# Altium schematic symbol library LD_EDFA.SchLib: 70 symbols
Pins are listed as number, name and electrical type; pins without a type are passive.

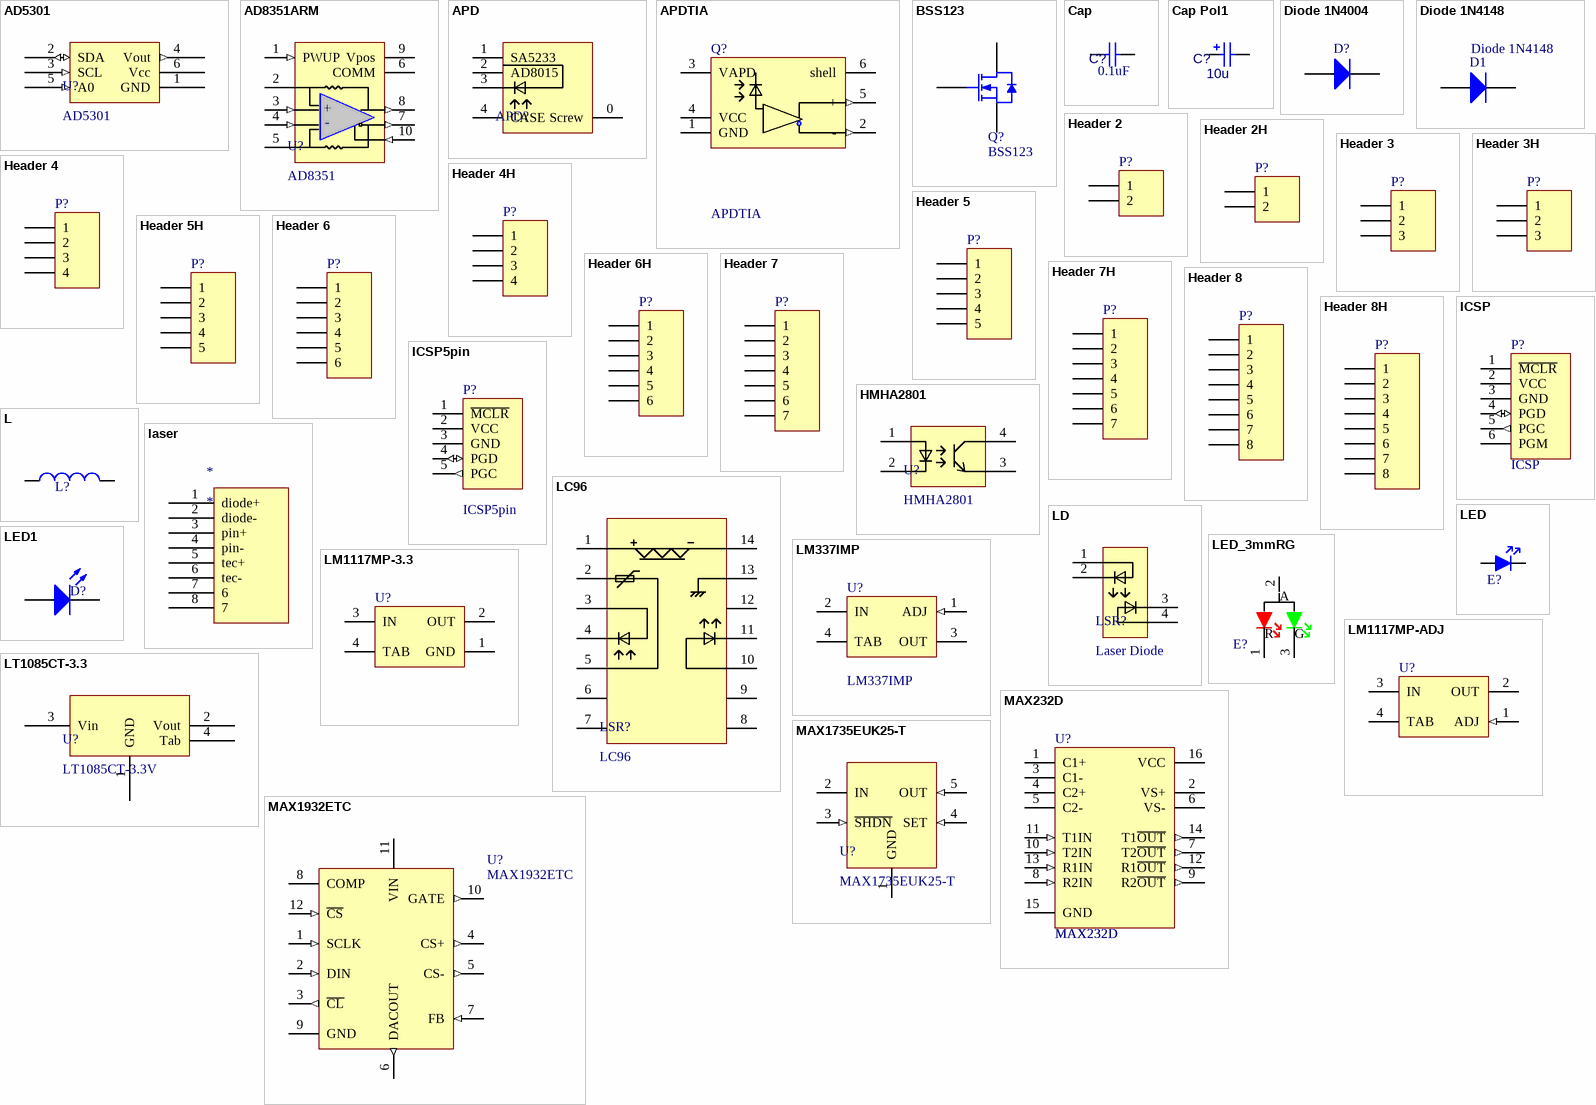
[diagram p0: symbols AD5301 to MAX1932ETC]

## AD5301
designator U?
AnalogDevices, I2C bus, 8bit  voltage output DAC
pins: 1 GND (power), 2 SDA (io), 3 SCL (in), 4 Vout (out), 5 A0 (in), 6 Vcc (power)

## AD8351ARM
designator U?, comment AD8351
Low Distortion  Differential RF/IF Amplifier
footprint MSOP-UN10_L (TSSOP, 10-Leads, Body 3x3mm, Pitch 0.5mm, IPC High Density)
footprint MSOP-UN10_M (TSSOP, 10-Leads, Body 3x3mm, Pitch 0.5mm, IPC Low Density)
footprint MSOP-UN10_N (TSSOP, 10-Leads, Body 3x3mm, Pitch 0.5mm, IPC Medium Density)
pins: 1 PWUP (in), 2 RGP1, 3 IN+ (in), 4 IN- (in), 5 RGP2, 6 COMM (power), 7 OPlow (out), 8 OPhigh (out), 9 Vpos (power), 10 Vocomm (in)
text: +; -

## APD
designator APD?  (value not drawn)
positiive choiceable APD
footprint APD-4pin
pins: 0 Screw, 1 SA5233, 2 AD8015, 3 monitor cathode +, 4 CASE

## APDTIA
designator Q?
footprint APDTIAnew
pins: 1 GND (power), 2 - (out), 3 VAPD (power), 4 VCC (power), 5 + (out), 6 shell

## BSS123
designator Q?
N-Channel Logic Level Enhancement Mode Field Effect Transistor
footprint SOT23_M (SOT23, 3-Leads, Body 2.9x1.3mm, Pitch 0.95mm, Lead Span 2.3mm - Reverse Pinning, IPC Low Density)
footprint SOT23_L (SOT23, 3-Leads, Body 2.9x1.3mm, Pitch 0.95mm, Lead Span 2.3mm - Reverse Pinning, IPC High Density)
footprint SOT23_N (SOT23, 3-Leads, Body 2.9x1.3mm, Pitch 0.95mm, Lead Span 2.3mm - Reverse Pinning, IPC Medium Density)
pins: 1 D, 2 S, 3 G

## Cap
designator C?  value 0.1uF
Capacitor; Published: 8-Jun-2000; LatestRevisionDate: 17-Jul-2002; LatestRevisionNote: Re-released for DXP Platform.; Publisher: Altium Limited
footprint CAP-MLCC-0603
footprint CAP-MLCC-0805
pins: 1, 2
2 alternate drawings of the same symbol

## Cap Pol1
designator C?  value 10u
Polarized Capacitor (Radial); Published: 8-Jun-2000; LatestRevisionDate: 17-Jul-2002; LatestRevisionNote: Re-released for DXP Platform.; Publisher: Altium Limited
footprint CAP-TAN-3216/CAPA
footprint CAP-TAN-3528/CAPB
pins: 1, 2
2 alternate drawings of the same symbol

## Diode 1N4004
designator D?  (value not drawn)
1 Amp General Purpose Rectifier; Revision 1: 11-Jul-2000: SIM Model Added.; Revision 2: 17-Jul-2002: Re-released for DXP Platform.; Package Information: Latest Revision: Aug-1999; Code - JEDEC: DO-204-AL; Published: 8-Jun-2000; Datasheet: Latest Revision: 1998; Package Reference: DO-41; Publisher: Altium Limited
footprint DIODE-0.4
pins: 1 A, 2 K

## Diode 1N4148
designator D1
High Conductance Fast Diode; Published: 8-Jun-2000; LatestRevisionDate: 17-Jul-2002; LatestRevisionNote: Re-released for DXP Platform.; DatasheetVersion: 1997; PackageReference: DO-35; Publisher: Altium Limited; Code_JEDEC: DO-204-AH; ComponentLink1Description: Manufacturer Link; ComponentLink1URL: http://www.fairchildsemi.com/; ComponentLink2Description: Datasheet; ComponentLink2URL: http://www.fairchildsemi.com/ds/1N%2F1N4148.pdf
footprint DIO7.1-3.9x1.9 (Diode, Axial; Body 3.8 x 1.9 mm (LxDia. max), Lead Dia. 0.53 mm (max))
simulation model 1N4148 (DIODE)
signal-integrity model 1N4148
footprint DO-35 (Diode, Axial; Body 3.8 x 1.9 mm (LxDia. max), Lead Dia. 0.53 mm (max))
footprint Diode-1206
pins: 1 A, 2 K

## Header 2
designator P?
Header, 2-Pin; LatestRevisionDate: 17-Jul-2002; LatestRevisionNote: Re-released for DXP Platform.; Publisher: Altium Limited
footprint HDR1X2 (Connector; Header; 2 Position)
signal-integrity model Connector
pins: 1, 2

## Header 2H
designator P?
Header, 2-Pin, Right Angle; LatestRevisionDate: 17-Jul-2002; LatestRevisionNote: Re-released for DXP Platform.; Publisher: Altium Limited
footprint HDR1X2H (Connector; Header; 2 Position; Right Angle)
signal-integrity model Connector
pins: 1, 2

## Header 3
designator P?
Header, 3-Pin; LatestRevisionDate: 17-Jul-2002; LatestRevisionNote: Re-released for DXP Platform.; Publisher: Altium Limited
footprint HDR1X3 (Connector; Header; 3 Position)
signal-integrity model Connector
pins: 1, 2, 3

## Header 3H
designator P?
Header, 3-Pin, Right Angle; LatestRevisionDate: 17-Jul-2002; LatestRevisionNote: Re-released for DXP Platform.; Publisher: Altium Limited
footprint HDR1X3H (Connector; Header; 3 Position; Right Angle)
signal-integrity model Connector
pins: 1, 2, 3

## Header 4
designator P?
Header, 4-Pin; LatestRevisionDate: 17-Jul-2002; LatestRevisionNote: Re-released for DXP Platform.; Publisher: Altium Limited
footprint HDR1X4 (Connector; Header; 4 Position)
signal-integrity model Connector
pins: 1, 2, 3, 4

## Header 4H
designator P?
Header, 4-Pin, Right Angle; LatestRevisionDate: 17-Jul-2002; LatestRevisionNote: Re-released for DXP Platform.; Publisher: Altium Limited
footprint HDR1X4H (Connector; Header; 4 Position; Right Angle)
signal-integrity model Connector
pins: 1, 2, 3, 4

## Header 5
designator P?
Header, 5-Pin; LatestRevisionDate: 17-Jul-2002; LatestRevisionNote: Re-released for DXP Platform.; Publisher: Altium Limited
footprint HDR1X5 (Connector; Header; 5 Position)
signal-integrity model Connector
pins: 1, 2, 3, 4, 5

## Header 5H
designator P?
Header, 5-Pin, Right Angle; LatestRevisionDate: 17-Jul-2002; LatestRevisionNote: Re-released for DXP Platform.; Publisher: Altium Limited
footprint HDR1X5H (Connector; Header; 5 Position; Right Angle)
signal-integrity model Connector
pins: 1, 2, 3, 4, 5

## Header 6
designator P?
Header, 6-Pin; LatestRevisionDate: 17-Jul-2002; LatestRevisionNote: Re-released for DXP Platform.; Publisher: Altium Limited
footprint HDR1X6 (Connector; Header; 6 Position)
signal-integrity model Connector
pins: 1, 2, 3, 4, 5, 6

## Header 6H
designator P?
Header, 6-Pin, Right Angle; LatestRevisionDate: 17-Jul-2002; LatestRevisionNote: Re-released for DXP Platform.; Publisher: Altium Limited
footprint HDR1X6H (Connector; Header; 6 Position; Right Angle)
signal-integrity model Connector
pins: 1, 2, 3, 4, 5, 6

## Header 7
designator P?
Header, 7-Pin; LatestRevisionDate: 17-Jul-2002; LatestRevisionNote: Re-released for DXP Platform.; Publisher: Altium Limited
footprint HDR1X7 (Connector; Header; 7 Position)
signal-integrity model Connector
pins: 1, 2, 3, 4, 5, 6, 7

## Header 7H
designator P?
Header, 7-Pin, Right Angle; LatestRevisionDate: 17-Jul-2002; LatestRevisionNote: Re-released for DXP Platform.; Publisher: Altium Limited
footprint HDR1X7H (Connector; Header; 7 Position; Right Angle)
signal-integrity model Connector
pins: 1, 2, 3, 4, 5, 6, 7

## Header 8
designator P?
Header, 8-Pin; LatestRevisionDate: 17-Jul-2002; LatestRevisionNote: Re-released for DXP Platform.; Publisher: Altium Limited
footprint HDR1X8 (Connector; Header; 8 Position)
signal-integrity model Connector
pins: 1, 2, 3, 4, 5, 6, 7, 8

## Header 8H
designator P?
Header, 8-Pin, Right Angle; LatestRevisionDate: 17-Jul-2002; LatestRevisionNote: Re-released for DXP Platform.; Publisher: Altium Limited
footprint HDR1X8H (Connector; Header; 8 Position; Right Angle)
signal-integrity model Connector
pins: 1, 2, 3, 4, 5, 6, 7, 8

## HMHA2801
designator U?
FairChild Optocoupler
pins: 1 cooler+, 2 Thermistor, 3 Monitor anode -, 4 monitor cathode +

## ICSP
designator P?
footprint HDR1X6 (Connector; Header; 6 Position)
pins: 1 ~{MCLR} (power), 2 VCC (power), 3 GND (power), 4 PGD (io), 5 PGC (out), 6 PGM (power)

## ICSP5pin
designator P?
footprint HDR1X5 (Connector; Header; 5 Position)
pins: 1 ~{MCLR} (power), 2 VCC (power), 3 GND (power), 4 PGD (io), 5 PGC (out)

## L
designator L?
Inductor; Published: 8-Jun-2000; Revision: July-2002: Re-released for DXP Platform.; Publisher: Altium Limited
signal-integrity model Inductor
footprint RES-0805
footprint RES-1206
footprint RES-0805
footprint RES-1210
footprint RES-1812
footprint RES-2010
footprint RES-2220
pins: 1, 2

## laser
designator *
pins: 1 diode+, 2 diode-, 3 pin+, 4 pin-, 5 tec+, 6 tec-, 7 6, 8 7

## LC96
designator LSR?
High power 980nm pump laser module
footprint Laser14 (Laser)
pins: 1 cooler+, 2 Thermistor, 3 Monitor anode -, 4 monitor cathode +, 5 Thermistor, 6, 7, 8, 9, 10 Laser anode +, 11 laset cathode -, 12, 13 case ground, 14 cooler -

## LD
designator LSR?, comment Laser Diode
Laser Diode & PIN
footprint LD (Laser Diode with Pin)
pins: 1 Laser anode +, 2 laset cathode -, 3 monitor cathode +, 4 Monitor anode -

## LED
designator E?  (value not drawn)
footprint LED-0805 (Footprint not found)
footprint LED-1206 (Footprint not found)
footprint LED-3MM/V
footprint LED-5MM/V
footprint LED-3MM/H
footprint LED-5MM/H
pins: A 1, K 2

## LED1
designator D?  (value not drawn)
Typical RED GaAs LED; Published: 8-Jun-2000; Revision: July-2002: Re-released for DXP Platform.; Publisher: Altium Limited
footprint LED-1 (Typical RED GaAs LED; 2 Leads)
pins: 1 A, 2 K

## LED_3mmRG
designator E?, comment Dual LED  (value not drawn)
3mm Dual LED in Red and Green
footprint LED_DUAL-3MM/CommonAnode (Common Anode 3mm LED in Red and Green)
pins: 1 Red, 2 A, 3 Green
text: R; G

## LM337IMP
designator U?
3-Terminal Adjustable Negative Regulators 4-pin SOT-223; Manufacturer: National Semiconductor; PackageTopMarking: N02A; PowerWise: N; CompType: LDO IC; DatasheetVersion: Apr-2006; PackageVersion: revB, Apr-2003; PackageReference: MP04A; PackageDescription: Molded SOT-223, 6.50 x 3.56 x 1.6mm Body, 4 Lead, 2.3mm Pitch; PartNumber: LM337IMP; PinCount: 4; Code_JEDEC: TO-261-AA; Code_IPC: SOT223-4; ComponentLink1Description: LM1117 Datasheet; ComponentLink1URL: http://www.national.com/ds/LM/LM1117.pdf; ComponentLink2Description: LM1117 Web Page; ComponentLink2URL: http://www.national.com/pf/LM/LM1117.html; ComponentLink3Description: MP04A Package Page; ComponentLink3URL: http://www.national.com/packaging/folders/mp04a.html
footprint SOT223_L (SOT223, 4-Leads, Body 6.5x3.5mm, Pitch 2.3mm, Lead Span 7mm, IPC High Density)
footprint SOT223_M (SOT223, 4-Leads, Body 6.5x3.5mm, Pitch 2.3mm, Lead Span 7mm, IPC Low Density)
footprint SOT223_N (SOT223, 4-Leads, Body 6.5x3.5mm, Pitch 2.3mm, Lead Span 7mm, IPC Medium Density)
pins: 1 ADJ (in), 2 IN (power), 3 OUT (power), 4 TAB (power)

## LM1117MP-3.3
designator U?
800mA Low-Dropout Linear Regulator, 4-pin SOT-223; PartNumber: LM1117MP-3.3; Manufacturer: National Semiconductor; PackageTopMarking: XYTT*N05A; PowerWise: N; CompType: LDO IC; Published: 4-Dec-2008; DatasheetVersion: Apr-2006; PackageVersion: revB, Apr-2003; PackageReference: MP04A; Publisher: Altium Limited; PackageDescription: Molded SOT-223, 6.50 x 3.56 x 1.6mm Body, 4 Lead, 2.3mm Pitch; Supplier 1: Farnell; Supplier Part Number 1: 9778195; Supplier 2: Farnell; Supplier Part Number 2: 9778195RL; RoHS: N; PinCount: 4; Code_JEDEC: TO-261-AA; Code_IPC: SOT223-4; ComponentLink1Description: LM1117 Datasheet; ComponentLink1URL: http://www.national.com/ds/LM/LM1117.pdf; ComponentLink2Description: LM1117 Web Page; ComponentLink2URL: http://www.national.com/pf/LM/LM1117.html; ComponentLink3Description: MP04A Package Page; ComponentLink3URL: http://www.national.com/packaging/folders/mp04a.html
footprint SOT223_N (SOT223, 4-Leads, Body 6.5x3.5mm, Pitch 2.3mm, Lead Span 7mm, IPC Medium Density)
footprint SOT223_L (SOT223, 4-Leads, Body 6.5x3.5mm, Pitch 2.3mm, Lead Span 7mm, IPC High Density)
footprint SOT223_M (SOT223, 4-Leads, Body 6.5x3.5mm, Pitch 2.3mm, Lead Span 7mm, IPC Low Density)
pins: 1 GND (power), 2 OUT (power), 3 IN (power), 4 TAB (power)

## LM1117MP-ADJ
designator U?
800mA Low-Dropout Linear Regulator, 4-pin SOT-223; PartNumber: LM1117MP-ADJ; Manufacturer: National Semiconductor; PackageTopMarking: XYTT*N03A; PowerWise: N; CompType: LDO IC; Published: 4-Dec-2008; DatasheetVersion: Apr-2006; PackageVersion: revB, Apr-2003; PackageReference: MP04A; Publisher: Altium Limited; PackageDescription: Molded SOT-223, 6.50 x 3.56 x 1.6mm Body, 4 Lead, 2.3mm Pitch; Supplier 1: Farnell; Supplier Part Number 1: 9778187; RoHS: N; PinCount: 4; Code_JEDEC: TO-261-AA; Code_IPC: SOT223-4; ComponentLink1Description: LM1117 Datasheet; ComponentLink1URL: http://www.national.com/ds/LM/LM1117.pdf; ComponentLink2Description: LM1117 Web Page; ComponentLink2URL: http://www.national.com/pf/LM/LM1117.html; ComponentLink3Description: MP04A Package Page; ComponentLink3URL: http://www.national.com/packaging/folders/mp04a.html
footprint SOT223_L (SOT223, 4-Leads, Body 6.5x3.5mm, Pitch 2.3mm, Lead Span 7mm, IPC High Density)
footprint SOT223_M (SOT223, 4-Leads, Body 6.5x3.5mm, Pitch 2.3mm, Lead Span 7mm, IPC Low Density)
footprint SOT223_N (SOT223, 4-Leads, Body 6.5x3.5mm, Pitch 2.3mm, Lead Span 7mm, IPC Medium Density)
pins: 1 ADJ (in), 2 OUT (power), 3 IN (power), 4 TAB (power)

## LT1085CT-3.3
designator U?, comment LT1085CT-3.3V
Linear Tech 3.3V output LDO
footprint TS3B_N (D2-PAK, 4-Leads, Body 8.6x10.2mm, Pitch 2.54mm, Lead Span 14.2mm, IPC Medium Density)
pins: 1 GND (power), 2 Vout (power), 3 Vin (power), 4 Tab (power)

## MAX232D
designator U?
Dual EIA-232 Driver/Receiver; Note: Receivers have typical hysteresis of 0.5V; Published: 15-May-2002; DatasheetDocument: Jun-1989; PackageDocument: Jan-1998; PackageReference: D016; Publisher: Altium Limited; Comment_1: MAX232D
footprint D016_N (16-Pin Small Outline Integrated Circuit 1.27 mm Pitch, IPC Medium Density)
pins: 1 C1+, 2 VS+ (power), 3 C1-, 4 C2+, 5 C2-, 6 VS- (power), 7 T2~{OUT} (out), 8 R2IN (in), 9 R2~{OUT} (out), 10 T2IN (in), 11 T1IN (in), 12 R1~{OUT} (out), 13 R1IN (in), 14 T1~{OUT} (out), 15 GND (power), 16 VCC (power)

## MAX1735EUK25-T
designator U?
200mA, Negative-Output, Low-Dropout  Linear Regulator in SOT23
footprint SOT23-5
pins: 1 GND (power), 2 IN (power), 3 ~{SHDN} (in), 4 SET (in), 5 OUT (in)

## MAX1932ETC
designator U?
footprint TQFN-12
pins: 1 SCLK (in), 2 DIN (in), 3 ~{CL} (out), 4 CS+ (out), 5 CS- (out), 6 DACOUT (out), 7 FB (in), 8 COMP (power), 9 GND (power), 10 GATE (out), 11 VIN (power), 12 ~{CS} (in)

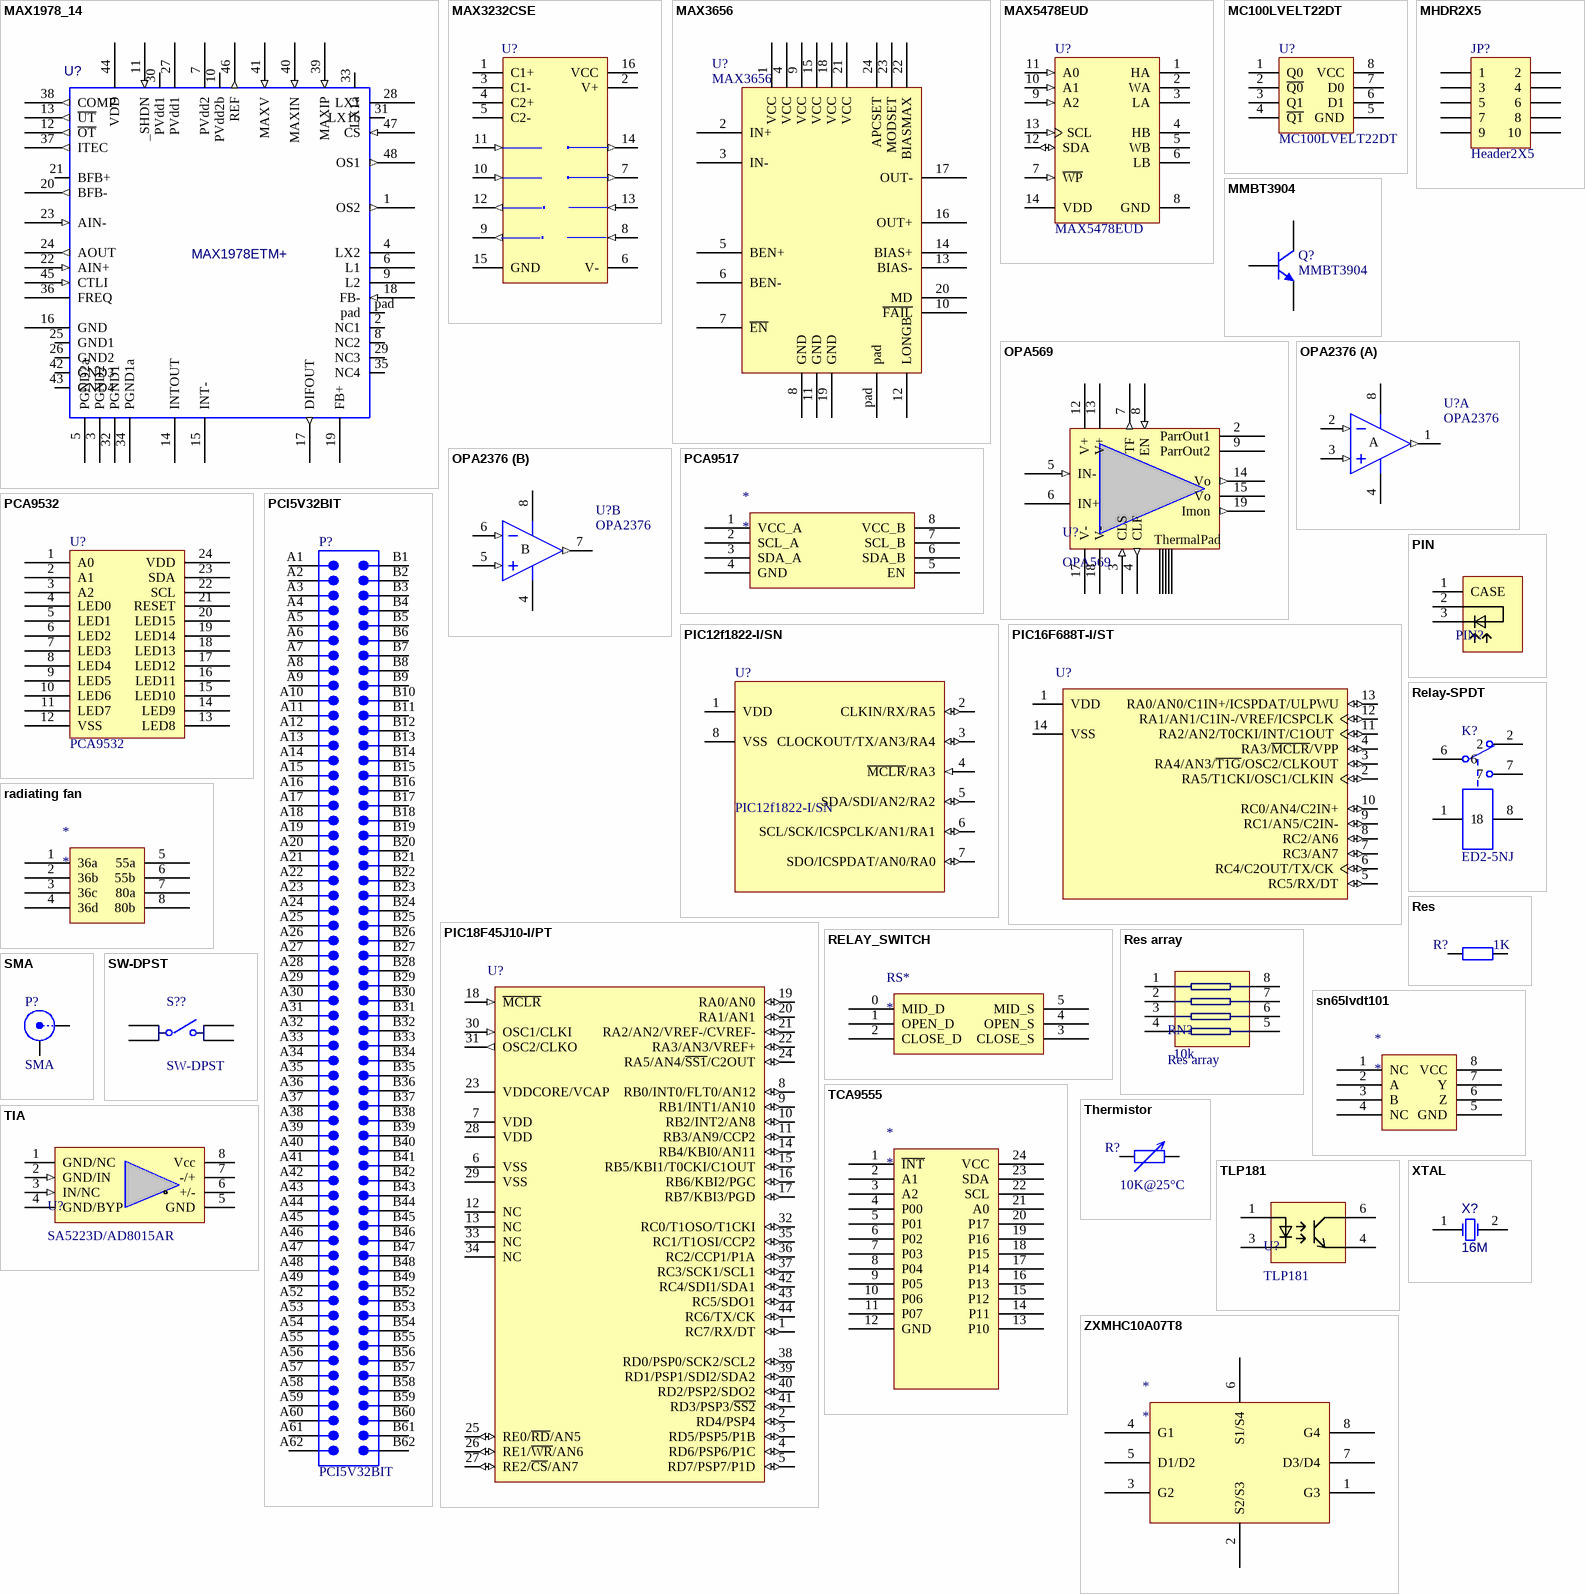
[diagram p1: symbols MAX1978_14 to ZXMHC10A07T8]

## MAX1978_14
designator U?, comment MAX1978ETM+
Integrated Temperature Controllers for Peltier Modules; Right: 200; Bottom: 220
footprint QFN7X7-48
pins: 1 OS2 (out), 2 NC1, 3 PGND2 (power), 4 LX2, 5 PGND2a, 6 L1, 7 PVdd2 (power), 8 NC2, 9 L2, 10 PVdd2b, 11 _SHDN (in), 12 ~{OT} (out), 13 ~{UT} (out), 14 INTOUT, 15 INT- (power), 16 GND (power), 17 DIFOUT (out), 18 FB- (in), 19 FB+, 20 BFB- (out), 21 BFB+, 22 AIN+ (in), 23 AIN- (in), 24 AOUT (out), 25 GND1, 26 GND2, 27 PVdd1 (power), 28 LX1, 29 NC3, 30 PVdd1 (power), 31 LX1b, 32 PGND1 (power), 33 LX1a, 34 PGND1a, 35 NC4, 36 FREQ, 37 ITEC (out), 38 COMP (out), 39 MAXIP (in), 40 MAXIN (in), 41 MAXV (in), 42 GND3, 43 GND4, 44 VDD (power), 45 CTLI (in), 46 REF (out), 47 CS (in), 48 OS1 (out), pad
2 alternate drawings of the same symbol

## MAX3232CSE
designator U?
3.0V TO 5.5V, Low-Power, up to 1Mbps, True RS-232 Transceiver Using Four 0.1µF External Capacitor; Published: 16-Jan-2001; LatestRevisionDate: 13-Apr-2006; LatestRevisionNote: IPC-7351 Footprint Added.; DatasheetVersion: Mar-1999; PackageReference: NSO16; Publisher: Altium Limited; PackageDescription: 16-Pin Small Outline Integrated Circuit 1.27 mm Pitch; Code_JEDEC: MS-012-AC; Code_IPC: SOIC127P600-16; ComponentLink1Description: Manufacturer Link; ComponentLink1URL: http://www.maxim-ic.com/; ComponentLink2Description: Datasheet; ComponentLink2URL: http://pdfserv.maxim-ic.com/en/ds/MAX3222-MAX3241.pdf
3D model NSO16 (16-Pin Small Outline Integrated Circuit 1.27 mm Pitch)
footprint SOIC-SL16_L (SOIC, 16-Leads, Body 9.9x3.9mm, Pitch 1.27mm, IPC High Density)
footprint SOIC-SL16_M (SOIC, 16-Leads, Body 9.9x3.9mm, Pitch 1.27mm, IPC Low Density)
footprint SOIC-SL16_N (SOIC, 16-Leads, Body 9.9x3.9mm, Pitch 1.27mm, IPC Medium Density)
pins: 1 C1+, 2 V+ (power), 3 C1-, 4 C2+, 5 C2-, 6 V- (power), 7 T2OUT (out), 8 R2IN (in), 9 R2OUT (out), 10 T2IN (in), 11 T1IN (in), 12 R1OUT (out), 13 R1IN (in), 14 T1OUT (out), 15 GND (power), 16 VCC (power)

## MAX3656
designator U?
Maxim 155Mbps to 2.5Gbps Burst-Mode  Laser Driver
footprint QFN24
pins: 1 VCC, 2 IN+, 3 IN-, 4 VCC, 5 BEN+, 6 BEN-, 7 ~{EN}, 8 GND, 9 VCC, 10 ~{FAIL}, 11 GND, 12 LONGB, 13 BIAS-, 14 BIAS+, 15 VCC, 16 OUT+, 17 OUT-, 18 VCC, 19 GND, 20 MD, 21 VCC, 22 BIASMAX, 23 MODSET, 24 APCSET, pad
2 alternate drawings of the same symbol

## MAX5478EUD
designator U?
Dual, 256-Tap, Nonvolatile,I2C-Interface, Digital Potentiometers 14-pin TSSOP; PackageReference: TSSOP-ST14; PackageDescription: 14-Lead Plastic Thin Shrink Small Outline (ST) - 4.4mm Body [TSSOP]
footprint TSSOP-ST14_N (TSOP, 14-Leads, Body 5x4.4mm, Pitch 0.65mm, IPC Medium Density)
footprint TSSOP-ST14_L (TSOP, 14-Leads, Body 5x4.4mm, Pitch 0.65mm, IPC High Density)
footprint TSSOP-ST14_M (TSOP, 14-Leads, Body 5x4.4mm, Pitch 0.65mm, IPC Low Density)
pins: 1 HA, 2 WA, 3 LA, 4 HB, 5 WB, 6 LB, 7 ~{WP} (in), 8 GND (power), 9 A2 (in), 10 A1 (in), 11 A0 (in), 12 SDA (io), 13 SCL (in), 14 VDD (power)

## MC100LVELT22DT
designator U?
3.3V Dual LVTTL/LVCMOS  to Differential LVPECL  Translator--TSSOP package
footprint TSSOP-ST8_N (TSOP, 8-Leads, Body 3x4.4mm, Pitch 0.65mm, IPC Medium Density)
pins: 1 Q0, 2 ~{Q0}, 3 Q1, 4 ~{Q1}, 5 GND, 6 D1, 7 D0, 8 VCC

## MHDR2X5
designator JP?, comment Header2X5
Header, 5-Pin, Dual row; LatestRevisionDate: 17-Jul-2002; LatestRevisionNote: Re-released for DXP Platform.; Publisher: Altium Limited
footprint MHDR2X5 (Connector; Header; 5x2 Position)
signal-integrity model Connector
footprint HDR2X5
pins: 1, 2, 3, 4, 5, 6, 7, 8, 9, 10

## MMBT3904
designator Q?
NPN General Purpose Amplifier; Published: 8-Jun-2000; LatestRevisionDate: 15-Jan-2003; LatestRevisionNote: PCB Footprint 'BCY-W3/D4.7' replaced; DatasheetVersion: 1997; PackageVersion: Sep-1998; PackageReference: TO-92A; Publisher: Altium Limited; PackageDescription: TO, Flat Index; 3 In-Line, Axial Leads; Body Dia. 4.5mm; Leads 0.51 x 0.48 mm (max); ComponentLink1Description: Manufacturer Link; ComponentLink1URL: http://www.fairchildsemi.com/; ComponentLink2Description: Datasheet; ComponentLink2URL: http://www.fairchildsemi.com/ds/2N%2F2N3904.pdf
footprint SOT23_L (SOT23, 3-Leads, Body 2.9x1.3mm, Pitch 0.95mm, Lead Span 2.3mm - Reverse Pinning, IPC High Density)
simulation model 2N3904 (NPN)
signal-integrity model 2N3904
pins: 1 C, 2 E, 3 B

## OPA569
designator U?
TI Rail to Rail 2A Power Amplifier
footprint DWP20
pins: 1 (power), 2 ParrOut1, 3 CLS (in), 4 CLF (out), 5 IN- (in), 6 IN+, 7 TF (out), 8 EN (in), 9 ParrOut2, 10 (power), 11 (power), 12 V+ (power), 13 V+ (power), 14 Vo (out), 15 Vo, 17 V- (power), 18 V- (power), 19 Imon (out), 20 (power), pad (power)
text: ThermalPad

## OPA2376
designator U?
Low-Noise, Low Quiescent Current, Precision Operational Amplifier
footprint SO8_N (SOIC, 8-Leads, Body 4.9x3.9mm, Pitch 1.27mm, IPC Medium Density)
footprint SO8_L (SOIC, 8-Leads, Body 4.9x3.9mm, Pitch 1.27mm, IPC High Density)
footprint SO8_M (SOIC, 8-Leads, Body 4.9x3.9mm, Pitch 1.27mm, IPC Low Density)
3D model SO8 (8-Pin Small Outline Integrated Circuit 1.27 mm Pitch)
pins on every part: 4 V- (power), 8 V+ (power)
part A pins: 1 OUT (out), 2 IN- (in), 3 IN+ (in)
part B pins: 5 IN+ (in), 6 IN- (in), 7 OUT (out)
part A text: A
part B text: B

## PCA9517
designator *
pins: 1 VCC_A, 2 SCL_A, 3 SDA_A, 4 GND, 5 EN, 6 SDA_B, 7 SCL_B, 8 VCC_B

## PCA9532
designator U?
footprint TSSOP-24
pins: 1 A0, 2 A1, 3 A2, 4 LED0, 5 LED1, 6 LED2, 7 LED3, 8 LED4, 9 LED5, 10 LED6, 11 LED7, 12 VSS, 13 LED8, 14 LED9, 15 LED10, 16 LED11, 17 LED12, 18 LED13, 19 LED14, 20 LED15, 21 RESET, 22 SCL, 23 SDA, 24 VDD
2 alternate drawings of the same symbol

## PCI5V32BIT
designator P?
Card, 120-Position; Text Field6: Pins A50, A51, B50 & B51 are not present.  Alternate Layout Available; Text Field7: Published 14-Feb-2002
footprint PCI5V32BIT
pins: A1, A2, A3, A4, A5, A6, A7, A8, A9, A10, A11, A12, A13, A14, A15, A16, A17, A18, A19, A20, A21, A22, A23, A24, A25, A26, A27, A28, A29, A30, A31, A32, A33, A34, A35, A36, A37, A38, A39, A40, A41, A42, A43, A44, A45, A46, A47, A48, A49, A52, A53, A54, A55, A56, A57, A58, A59, A60, A61, A62, B1, B2, B3, B4, B5, B6, B7, B8, B9, B10, B11, B12, B13, B14, B15, B16, B17, B18, B19, B20, B21, B22, B23, B24, B25, B26, B27, B28, B29, B30, B31, B32, B33, B34, B35, B36, B37, B38, B39, B40, B41, B42, B43, B44, B45, B46, B47, B48, B49, B52, B53, B54, B55, B56, B57, B58, B59, B60, B61, B62
1 alternate drawing of the same symbol

## PIC12f1822-I/SN
designator U?
Microchip 8/14-Pin Flash Microcontrollers
footprint SOIC-OA8_M (SOIC, 8-Leads, Body 4.9x3.9mm, Pitch 1.27mm, IPC Low Density)
footprint SOIC-OA8_L (SOIC, 8-Leads, Body 4.9x3.9mm, Pitch 1.27mm, IPC High Density)
footprint SOIC-OA8_N (SOIC, 8-Leads, Body 4.9x3.9mm, Pitch 1.27mm, IPC Medium Density)
pins: 1 VDD (power), 2 CLKIN/RX/RA5 (io), 3 CLOCKOUT/TX/AN3/RA4 (io), 4 ~{MCLR}/RA3 (in), 5 SDA/SDI/AN2/RA2 (io), 6 SCL/SCK/ICSPCLK/AN1/RA1 (io), 7 SDO/ICSPDAT/AN0/RA0 (io), 8 VSS (power)

## PIC16F688T-I/ST
designator U?
FLASH-Based 8-Bit CMOS Microcontroller, 10-Bit A/D, 4K (x14-Bit words) FLASH, 256 Bytes SRAM, 14-Pin TSSOP, Industrial Temperature, Tape and Reel; Published: 11-Oct-2004; LatestRevisionDate: 29-Jan-2009; LatestRevisionNote: Sch. layout revised. 3D Model Removed.; DatasheetVersion: revD, Feb-2007; PackageVersion: revBB, Aug-2009; PackageReference: TSSOP-ST14; Publisher: Altium Limited; PackageDescription: 14-Lead Plastic Thin Shrink Small Outline (ST) - 4.4mm Body [TSSOP]; Supplier 1: Digi-Key; Supplier Part Number 1: PIC16F688T-I/ST-ND; ComponentLink1Description: Datasheet; ComponentLink1URL: http://ww1.microchip.com/downloads/en/DeviceDoc/41203D.pdf; ComponentLink2Description: Packaging Specification; ComponentLink2URL: http://www.microchip.com/stellent/groups/techpub_sg/documents/packagingspec/en012702.pdf; ComponentLink3Description: Microchip.com Home; ComponentLink3URL: http://www.microchip.com/
footprint TSSOP-ST14_N (TSOP, 14-Leads, Body 5x4.4mm, Pitch 0.65mm, IPC Medium Density)
footprint TSSOP-ST14_L (TSOP, 14-Leads, Body 5x4.4mm, Pitch 0.65mm, IPC High Density)
footprint TSSOP-ST14_M (TSOP, 14-Leads, Body 5x4.4mm, Pitch 0.65mm, IPC Low Density)
pins: 1 VDD (power), 2 RA5/T1CKI/OSC1/CLKIN (io), 3 RA4/AN3/~{T1G}/OSC2/CLKOUT (io), 4 RA3/~{MCLR}/VPP (io), 5 RC5/RX/DT (io), 6 RC4/C2OUT/TX/CK (io), 7 RC3/AN7 (io), 8 RC2/AN6 (io), 9 RC1/AN5/C2IN- (io), 10 RC0/AN4/C2IN+ (io), 11 RA2/AN2/T0CKI/INT/C1OUT (io), 12 RA1/AN1/C1IN-/VREF/ICSPCLK (io), 13 RA0/AN0/C1IN+/ICSPDAT/ULPWU (io), 14 VSS (power)

## PIC18F45J10-I/PT
designator U?
High Performance RISC Microcontroller with nanoWatt Technology, 32K Flash, 44-Pin TQFP, Industrial Temperature Range; Published: 29-Jan-2009; LatestRevisionDate: 02-Dec-2009; LatestRevisionNote: Updated to datasheet revision E, May-2009; DatasheetVersion: revE, May-2009; PackageVersion: revBB, Aug-2009; PackageReference: TQFP-PT44; Publisher: Altium Limited; PackageDescription: 44-Lead Plastic Thin Quad Flatpack (PT) - 10x10x1mm Body, 2.00mm [TQFP]; Supplier 1: Digi-Key; Supplier Part Number 1: PIC18F45J10-I/PT-ND; Supplier 2: Farnell; Supplier Part Number 2: 1332271; Code_JEDEC: MS-026; ComponentLink1Description: Datasheet; ComponentLink1URL: http://ww1.microchip.com/downloads/en/DeviceDoc/39682E.pdf; ComponentLink2Description: Packaging Specification; ComponentLink2URL: http://www.microchip.com/stellent/groups/techpub_sg/documents/packagingspec/en012702.pdf; ComponentLink3Description: Microchip.com Home; ComponentLink3URL: http://www.microchip.com/
footprint TQFP-PT44_N (Thin QFP, 44-Leads, Body 10x10mm, Pitch 0.8mm, IPC Medium Density)
footprint TQFP-PT44_L (Thin QFP, 44-Leads, Body 10x10mm, Pitch 0.8mm, IPC High Density)
footprint TQFP-PT44_M (Thin QFP, 44-Leads, Body 10x10mm, Pitch 0.8mm, IPC Low Density)
pins: 1 RC7/RX/DT (io), 2 RD4/PSP4 (io), 3 RD5/PSP5/P1B (io), 4 RD6/PSP6/P1C (io), 5 RD7/PSP7/P1D (io), 6 VSS (power), 7 VDD (power), 8 RB0/INT0/FLT0/AN12 (io), 9 RB1/INT1/AN10 (io), 10 RB2/INT2/AN8 (io), 11 RB3/AN9/CCP2 (io), 12 NC, 13 NC, 14 RB4/KBI0/AN11 (io), 15 RB5/KBI1/T0CKI/C1OUT (io), 16 RB6/KBI2/PGC (io), 17 RB7/KBI3/PGD (io), 18 ~{MCLR} (in), 19 RA0/AN0 (io), 20 RA1/AN1 (io), 21 RA2/AN2/VREF-/CVREF- (io), 22 RA3/AN3/VREF+ (io), 23 VDDCORE/VCAP (power), 24 RA5/AN4/~{SS1}/C2OUT (io), 25 RE0/~{RD}/AN5 (io), 26 RE1/~{WR}/AN6 (io), 27 RE2/~{CS}/AN7 (io), 28 VDD (power), 29 VSS (power), 30 OSC1/CLKI (in), 31 OSC2/CLKO (out), 32 RC0/T1OSO/T1CKI (io), 33 NC, 34 NC, 35 RC1/T1OSI/CCP2 (io), 36 RC2/CCP1/P1A (io), 37 RC3/SCK1/SCL1 (io), 38 RD0/PSP0/SCK2/SCL2 (io), 39 RD1/PSP1/SDI2/SDA2 (io), 40 RD2/PSP2/SDO2 (io), 41 RD3/PSP3/~{SS2} (io), 42 RC4/SDI1/SDA1 (io), 43 RC5/SDO1 (io), 44 RC6/TX/CK (io)

## PIN
designator PIN?  (value not drawn)
JiuZhou PIN
footprint Pin
pins: 1 CASE, 2 Monitor anode -, 3 monitor cathode +

## radiating fan
designator *
pins: 1 36a, 2 36b, 3 36c, 4 36d, 5 55a, 6 55b, 7 80a, 8 80b

## Relay-SPDT
designator K?, comment ED2-5NJ
Single-Pole Dual-Throw Relay; Published: 24-Mar-1999; LatestRevisionDate: 17-Jul-2002; LatestRevisionNote: Re-released for DXP Platform.; PackageReference: MODULE5B; Publisher: Altium Limited
footprint ED2-5NJ
pins: 1, 2, 6, 7, 8

## RELAY_SWITCH
designator RS*
pins: 0 MID_D, 1 OPEN_D, 2 CLOSE_D, 3 CLOSE_S, 4 OPEN_S, 5 MID_S

## Res
designator R?  value 1K
Semiconductor Resistor; Published: 8-Jun-2000; Revision: July-2002: Re-released for DXP Platform.; Publisher: Altium Limited
signal-integrity model Res Semi
footprint RES-0603
footprint RES-0805
footprint RES-0402
footprint RES-1210
footprint RES-1812
footprint RES-0402-IPC High
pins: 1, 2
1 alternate drawing of the same symbol

## Res array
designator RN?  value 10k
Res4 array
footprint 742-CTS-RN-8PIN-SM
pins: 1 (power), 2 (power), 3 (power), 4 (power), 5 (power), 6 (power), 7 (power), 8 (power)

## SMA
designator P?
SMA Straight Connector; LatestRevisionDate: 17-Jul-2002; LatestRevisionNote: Re-released for DXP Platform.; Publisher: Altium Limited
signal-integrity model Connector
footprint MCX5.08-H5 (Connector; RF Coaxial, MCX, Thru-Hole; 5 Position; Right Angle)
pins: 1 X, 2 Y

## sn65lvdt101
designator *
pins: 1 NC, 2 A, 3 B, 4 NC, 5 GND, 6 Z, 7 Y, 8 VCC

## SW-DPST
designator S??
Double-Pole, Single-Throw Switch; Published: 24-Mar-1999; LatestRevisionDate: 17-Jul-2002; LatestRevisionNote: Re-released for DXP Platform.; PackageReference: DPST-4; Publisher: Altium Limited
footprint DPST-4 (Double-Pole, Single-Throw Switch; 4 Leads)
pins: 1 COMMON1, 2 COMMON2, 3 NO1, 4 NO2

## TCA9555
designator *
pins: 1 ~{INT}, 2 A1, 3 A2, 4 P00, 5 P01, 6 P02, 7 P03, 8 P04, 9 P05, 10 P06, 11 P07, 12 GND, 13 P10, 14 P11, 15 P12, 16 P13, 17 P14, 18 P15, 19 P16, 20 P17, 21 A0, 22 SCL, 23 SDA, 24 VCC

## Thermistor
designator R?  value 10K@25°C  (hidden comment: Thermistor)
Semiconductor Resistor; Published: 8-Jun-2000; Revision: July-2002: Re-released for DXP Platform.; Publisher: Altium Limited
signal-integrity model Res Semi
footprint RES-0603
footprint RES-0805
footprint RES-0402
footprint RES-1210
footprint RES-1812
footprint AXIAL-0.12 (Axial Device, Thru-Hole; 2 Leads; 0.3 in Pin Spacing)
pins: 1, 2
1 alternate drawing of the same symbol

## TIA
designator U?, comment SA5223D/AD8015AR
AD8015AR/SA5223D
footprint SOIC-OA8_L (SOIC, 8-Leads, Body 4.9x3.9mm, Pitch 1.27mm, IPC High Density)
footprint SOIC-OA8_M (SOIC, 8-Leads, Body 4.9x3.9mm, Pitch 1.27mm, IPC Low Density)
footprint SOIC-OA8_N (SOIC, 8-Leads, Body 4.9x3.9mm, Pitch 1.27mm, IPC Medium Density)
pins: 1 GND/NC (power), 2 GND/IN (in), 3 IN/NC (in), 4 GND/BYP, 5 GND (power), 6 +/- (power), 7 -/+ (power), 8 Vcc (power)

## TLP181
designator U?
Optocoupler
footprint 11-4C1 (Toshiba Optocoupler\)
pins: 1 cooler+, 3 Thermistor, 4 Monitor anode -, 6 monitor cathode +

## XTAL
designator X?, comment 16M
Crystal Oscillator; Published: 8-Jun-2000; LatestRevisionDate: 17-Jul-2002; LatestRevisionNote: Re-released for DXP Platform.; Publisher: Altium Limited
footprint RAD-0.2
pins: 1 OSC1, 2 OSC2
2 alternate drawings of the same symbol

## ZXMHC10A07T8
designator *
pins: 1 G3, 2 S2/S3, 3 G2, 4 G1, 5 D1/D2, 6 S1/S4, 7 D3/D4, 8 G4